# EAGLE library part ATMEGA328PB-? (library ArduinoPB-Pro-Mini)
MICROCONTROLLER 32 kBytes FLASH 2 kBytes SRAM 1 kBytes EEPROM 1.8V to 5.5V Peripheral Touch Controller 2 8-bit Timer/Counters, TC2 can be RTC 3 16-bit Timer/Counters 10 PWM channels Output Compare Modulator 8-channel 10 bit ADC 2 USART 2 SPI 2 I2C Watch Dog timer Analog Comparator Interrupt and Wake-up on Pin change
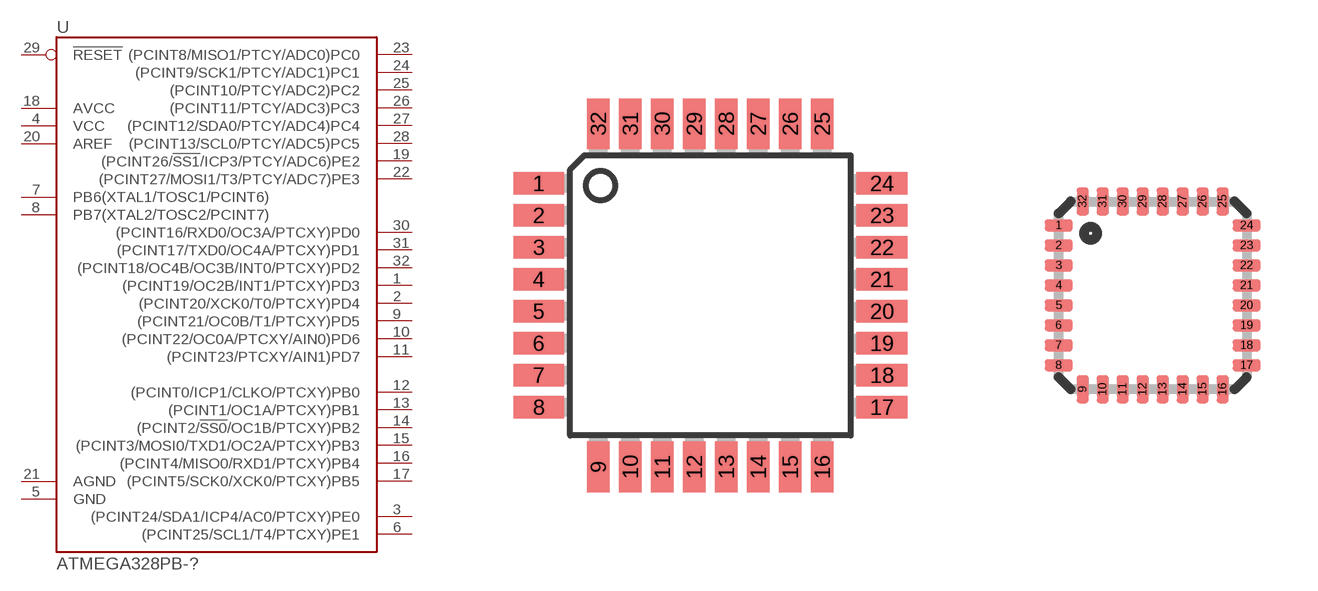
[diagram p0: symbol with the pads of TQFP32-08; footprints TQFP32-08, MLF32]

Designator prefix U

## ATMEGA328PB-A  [TQFP32-08]
1  (PCINT19/OC2B/INT1/PTCXY)PD3
2  (PCINT20/XCK0/T0/PTCXY)PD4
3  (PCINT24/SDA1/ICP4/AC0/PTCXY)PE0
4  VCC  pwr
5  GND  pwr
6  (PCINT25/SCL1/T4/PTCXY)PE1
7  PB6(XTAL1/TOSC1/PCINT6)
8  PB7(XTAL2/TOSC2/PCINT7)
9  (PCINT21/OC0B/T1/PTCXY)PD5
10  (PCINT22/OC0A/PTCXY/AIN0)PD6
11  (PCINT23/PTCXY/AIN1)PD7
12  (PCINT0/ICP1/CLKO/PTCXY)PB0
13  (PCINT1/OC1A/PTCXY)PB1
14  (PCINT2/!SS0!/OC1B/PTCXY)PB2
15  (PCINT3/MOSI0/TXD1/OC2A/PTCXY)PB3
16  (PCINT4/MISO0/RXD1/PTCXY)PB4
17  (PCINT5/SCK0/XCK0/PTCXY)PB5
18  AVCC
19  (PCINT26/!SS1!/ICP3/PTCY/ADC6)PE2
20  AREF
21  AGND  pwr
22  (PCINT27/MOSI1/T3/PTCY/ADC7)PE3
23  (PCINT8/MISO1/PTCY/ADC0)PC0
24  (PCINT9/SCK1/PTCY/ADC1)PC1
25  (PCINT10/PTCY/ADC2)PC2
26  (PCINT11/PTCY/ADC3)PC3
27  (PCINT12/SDA0/PTCY/ADC4)PC4
28  (PCINT13/SCL0/PTCY/ADC5)PC5
29  !RESET!
30  (PCINT16/RXD0/OC3A/PTCXY)PD0
31  (PCINT17/TXD0/OC4A/PTCXY)PD1
32  (PCINT18/OC4B/OC3B/INT0/PTCXY)PD2

## ATMEGA328PB-M  [MLF32]
Pads as for TQFP32-08

## Footprint TQFP32-08 (pad centres in mm)
Thin Plasic Quad Flat Package Grid 0.8 mm
smd 1.27 x 0.559: 1 -4.293,2.8; 2 -4.293,2; 3 -4.293,1.2; 4 -4.293,0.4; 5 -4.293,-0.4; 6 -4.293,-1.2; 7 -4.293,-2; 8 -4.293,-2.8; 17 4.293,-2.8; 18 4.293,-2; 19 4.293,-1.2; 20 4.293,-0.4; 21 4.293,0.4; 22 4.293,1.2; 23 4.293,2; 24 4.293,2.8
smd 0.559 x 1.27: 9 -2.8,-4.293; 10 -2,-4.293; 11 -1.2,-4.293; 12 -0.4,-4.293; 13 0.4,-4.293; 14 1.2,-4.293; 15 2,-4.293; 16 2.8,-4.293; 25 2.8,4.293; 26 2,4.293; 27 1.2,4.293; 28 0.4,4.293; 29 -0.4,4.293; 30 -1.2,4.293; 31 -2,4.293; 32 -2.8,4.293

## Footprint MLF32 (pad centres in mm)
32M1-A Micro Lead Frame package (MLF)
smd 0.7 x 0.3: 1 -2.35,1.75; 2 -2.35,1.25; 3 -2.35,0.75; 4 -2.35,0.25; 5 -2.35,-0.25; 6 -2.35,-0.75; 7 -2.35,-1.25; 8 -2.35,-1.75; 17 2.35,-1.75; 18 2.35,-1.25; 19 2.35,-0.75; 20 2.35,-0.25; 21 2.35,0.25; 22 2.35,0.75; 23 2.35,1.25; 24 2.35,1.75
smd 0.3 x 0.7: 9 -1.75,-2.35; 10 -1.25,-2.35; 11 -0.75,-2.35; 12 -0.25,-2.35; 13 0.25,-2.35; 14 0.75,-2.35; 15 1.25,-2.35; 16 1.75,-2.35; 25 1.75,2.35; 26 1.25,2.35; 27 0.75,2.35; 28 0.25,2.35; 29 -0.25,2.35; 30 -0.75,2.35; 31 -1.25,2.35; 32 -1.75,2.35